# Altium footprint library 直插.PcbLib: 159 footprints (part 1 of 10)
Each footprint in its own frame and in the unit in brackets; x right, y up, seen from the top. Pads: shape width x height; smd on the part's side, far side on the other; paste and mask are expansions set on the pad; w line width, h text height; cw(c..) or ccw(c..) is an arc to the next point about the centre after c.
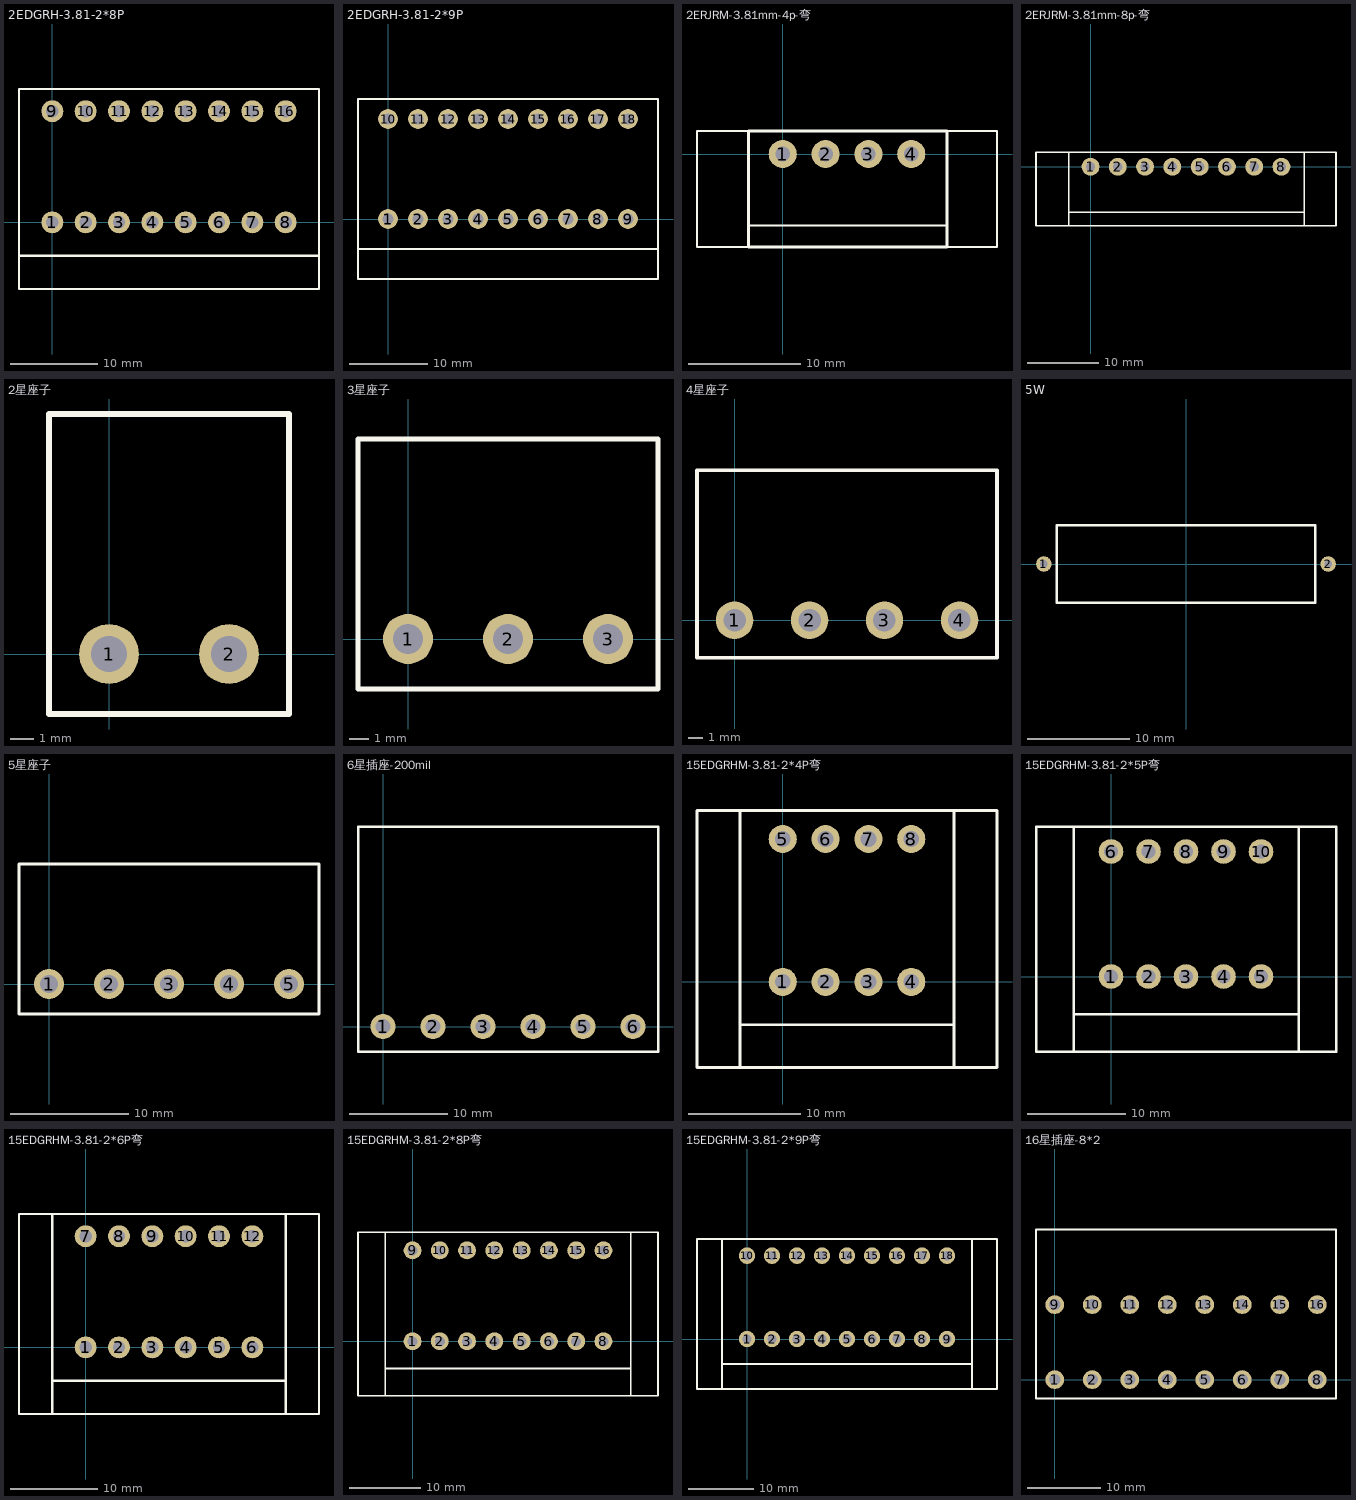
[diagram p0: the footprints below, top view; thin cyan lines are the x and y axes]

## 2EDGRH-3.81-2*8P [mm] "3.81MM 双排 接线端子 插拔式 弯针 双层 3.81MM 2*8P"
pads (16):
  round 2.5 hole 1.4: 1(0,0) 2(3.81,0) 3(7.62,0) 4(11.43,0) 5(15.24,0) 6(19.05,0) 7(22.86,0) 8(26.67,0) 9(0,12.7) 10(3.81,12.7) 11(7.62,12.7) 12(11.43,12.7) 13(15.24,12.7) 14(19.05,12.7) 15(22.86,12.7) 16(26.67,12.7)
Top Overlay:
  lines w0.254: -3.81,-3.81 30.48,-3.81 ; -3.81,-7.62 -3.81,15.24 30.48,15.24 30.48,-7.62 -3.81,-7.62

## 2EDGRH-3.81-2*9P [mm] "3.81MM 双排 接线端子 插拔式 弯针 双层 3.81MM 2*9P"
pads (18):
  round 2.5 hole 1.4: 1(0,0) 2(3.81,0) 3(7.62,0) 4(11.43,0) 5(15.24,0) 6(19.05,0) 7(22.86,0) 8(26.67,0) 9(30.48,0) 10(0,12.7) 11(3.81,12.7) 12(7.62,12.7) 13(11.43,12.7) 14(15.24,12.7) 15(19.05,12.7) 16(22.86,12.7) 17(26.67,12.7) 18(30.48,12.7)
Top Overlay:
  lines w0.254: -3.81,-3.81 34.29,-3.81 ; -3.81,-7.62 34.29,-7.62 34.29,15.24 -3.81,15.24 -3.81,-7.62

## 2ERJRM-3.81mm-4p-弯 [mm] "KF2EDG 的带耳版"
pads (4):
  round 2.5 hole 1.3: 1(0,0) 2(3.81,0) 3(7.62,0) 4(11.43,0)
Top Overlay:
  lines w0.178: -3.048,-8.255 -7.62,-8.255 -7.62,2.032 -3.048,2.032 ; -3.048,-6.35 14.605,-6.35 ; 14.605,-8.255 19.05,-8.255 19.05,2.032 14.605,2.032
  lines w0.254: -3.048,-8.255 -3.048,2.032 14.605,2.032 14.605,-8.255 -3.048,-8.255

## 2ERJRM-3.81mm-8p-弯 [mm] "KF2EDG 的带耳版"
pads (8):
  round 2.5 hole 1.3: 1(0,0) 2(3.81,0) 3(7.62,0) 4(11.43,0) 5(15.24,0) 6(19.05,0) 7(22.86,0) 8(26.67,0)
Top Overlay:
  lines w0.178: -3.048,-6.35 29.845,-6.35
  lines w0.254: 29.845,-8.255 29.845,2.032 ; -3.048,-8.255 -3.048,2.032 ; -3.048,-8.255 14.605,-8.255 34.29,-8.255 34.29,2.032 14.605,2.032 -3.048,2.032 ; -3.048,-8.255 -7.62,-8.255 -7.62,2.032 -3.048,2.032

## 2星座子 [mil]
pads (2):
  round 100 hole 60: 1(0,0) 2(200,0)
Top Overlay:
  lines w10: -100,-100 -100,400 300,400 300,-100 -100,-100

## 3星座子 [mil]
pads (3):
  round 100 hole 60: 1(0,0) 2(200,0) 3(400,0)
Top Overlay:
  lines w10: -100,-100 500,-100 500,400 -100,400 -100,-100

## 4星座子 [mil]
pads (4):
  round 100 hole 60: 1(0,0) 2(200,0) 3(400,0) 4(600,0)
Top Overlay:
  lines w10: -100,-100 700,-100 700,400 -100,400 -100,-100

## 5W [mil]
pads (2):
  round 60 hole 30: 1(-550,0) 2(550,0)
Top Overlay:
  lines w10: -500,-150 -500,150 500,150 500,-150 -500,-150
3D body: height 300, standoff 10, extent -500,-150 500,150

## 5星座子 [mil]
pads (5):
  round 100 hole 60: 1(0,0) 2(200,0) 3(400,0) 4(600,0) 5(800,0)
Top Overlay:
  lines w10: -100,-100 900,-100 900,400 -100,400 -100,-100

## 6星插座-200mil [mil]
pads (6):
  round 100 hole 60: 1(0,0) 2(200,0) 3(400,0) 4(600,0) 5(800,0) 6(1000,0)
Top Overlay:
  lines w10: -100,-100 1100,-100 1100,800 -100,800 -100,-100

## 15EDGRHM-3.81-2*4P弯 [mm] "3.81MM 双排 带耳接线端子 插拔式 弯针 双层 3.81MM 2*4P"
pads (8):
  round 2.5 hole 1.4: 1(0,0) 2(3.81,0) 3(7.62,0) 4(11.43,0) 5(0,12.7) 6(3.81,12.7) 7(7.62,12.7) 8(11.43,12.7)
Top Overlay:
  lines w0.254: -3.81,-3.81 15.24,-3.81 ; -3.81,-7.62 -3.81,15.24 ; -3.81,-7.62 15.24,-7.62 ; -3.81,-7.62 -7.62,-7.62 -7.62,15.24 -3.81,15.24 ; -3.81,15.24 15.24,15.24 ; 15.24,-7.62 15.24,15.24 ; 15.24,-7.62 19.05,-7.62 19.05,15.24 15.24,15.24

## 15EDGRHM-3.81-2*5P弯 [mm] "3.81MM 双排 带耳接线端子 插拔式 弯针 双层 3.81MM 2*5P"
pads (10):
  round 2.5 hole 1.4: 1(0,0) 2(3.81,0) 3(7.62,0) 4(11.43,0) 5(15.24,0) 6(0,12.7) 7(3.81,12.7) 8(7.62,12.7) 9(11.43,12.7) 10(15.24,12.7)
Top Overlay:
  lines w0.254: -3.81,-3.81 19.05,-3.81 ; 19.05,-7.62 19.05,15.24 ; -3.81,-7.62 -3.81,15.24 ; -3.81,-7.62 15.24,-7.62 22.86,-7.62 22.86,15.24 15.24,15.24 -3.81,15.24 ; -3.81,-7.62 -7.62,-7.62 -7.62,15.24 -3.81,15.24

## 15EDGRHM-3.81-2*6P弯 [mm] "3.81MM 双排 带耳接线端子 插拔式 弯针 双层 3.81MM 2*6P"
pads (12):
  round 2.5 hole 1.4: 1(0,0) 2(3.81,0) 3(7.62,0) 4(11.43,0) 5(15.24,0) 6(19.05,0) 7(0,12.7) 8(3.81,12.7) 9(7.62,12.7) 10(11.43,12.7) 11(15.24,12.7) 12(19.05,12.7)
Top Overlay:
  lines w0.254: -3.81,-3.81 22.86,-3.81 ; 22.86,-7.62 22.86,15.24 ; -3.81,-7.62 -3.81,15.24 ; -3.81,-7.62 15.24,-7.62 26.67,-7.62 26.67,15.24 15.24,15.24 -3.81,15.24 ; -3.81,-7.62 -7.62,-7.62 -7.62,15.24 -3.81,15.24

## 15EDGRHM-3.81-2*8P弯 [mm] "3.81MM 双排 带耳接线端子 插拔式 弯针 双层 3.81MM 2*8P"
pads (16):
  round 2.5 hole 1.4: 1(0,0) 2(3.81,0) 3(7.62,0) 4(11.43,0) 5(15.24,0) 6(19.05,0) 7(22.86,0) 8(26.67,0) 9(0,12.7) 10(3.81,12.7) 11(7.62,12.7) 12(11.43,12.7) 13(15.24,12.7) 14(19.05,12.7) 15(22.86,12.7) 16(26.67,12.7)
Top Overlay:
  lines w0.254: -3.81,-3.81 30.48,-3.81 ; 30.48,-7.62 30.48,15.24 ; -3.81,-7.62 -7.62,-7.62 -7.62,15.24 -3.81,15.24 ; -3.81,-7.62 15.24,-7.62 34.29,-7.62 34.29,15.24 15.24,15.24 -3.81,15.24 ; -3.81,-7.62 -3.81,15.24

## 15EDGRHM-3.81-2*9P弯 [mm] "3.81MM 双排 带耳接线端子 插拔式 弯针 双层 3.81MM 2*9P"
pads (18):
  round 2.5 hole 1.4: 1(0,0) 2(3.81,0) 3(7.62,0) 4(11.43,0) 5(15.24,0) 6(19.05,0) 7(22.86,0) 8(26.67,0) 9(30.48,0) 10(0,12.7) 11(3.81,12.7) 12(7.62,12.7) 13(11.43,12.7) 14(15.24,12.7) 15(19.05,12.7) 16(22.86,12.7) 17(26.67,12.7) 18(30.48,12.7)
Top Overlay:
  lines w0.254: -3.81,-3.81 34.29,-3.81 ; 34.29,-7.62 34.29,15.24 ; -3.81,-7.62 -7.62,-7.62 -7.62,15.24 -3.81,15.24 ; -3.81,-7.62 15.24,-7.62 38.1,-7.62 38.1,15.24 15.24,15.24 -3.81,15.24 ; -3.81,-7.62 -3.81,15.24

## 16星插座-8*2 [mil]
pads (16):
  round 100 hole 60: 1(0,0) 2(200,0) 3(400,0) 4(600,0) 5(800,0) 6(1000,0) 7(1200,0) 8(1400,0) 9(0,400) 10(200,400) 11(400,400) 12(600,400) 13(800,400) 14(1000,400) 15(1200,400) 16(1400,400)
Top Overlay:
  lines w10: -100,-100 1500,-100 1500,800 -100,800 -100,-100